# Altium schematic symbol library crystal_dip.SchLib: 1 symbol
Pins are listed as number, name and electrical type; pins without a type are passive.

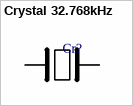
[diagram p0: symbol Crystal 32.768kHz]

## Crystal 32.768kHz
designator Cr?  (value not drawn)
32.768kHz
footprint PCBComponent_1
pins: 1, 2